# Altium schematic symbol library MC7805BDTRKG.Schlib: 1 symbol
Pins are listed as number, name and electrical type; pins without a type are passive.

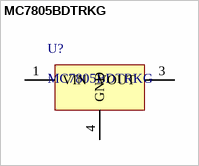
[diagram p0: symbol MC7805BDTRKG]

## MC7805BDTRKG
designator U?
Linear Voltage Regulator IC  1 Output  1A DPAK
pins: 1 VIN, 3 VOUT, 4 GND